# Altium integrated library renesas.IntLib: 1 symbol
Pins are listed as number, name and electrical type; pins without a type are passive.

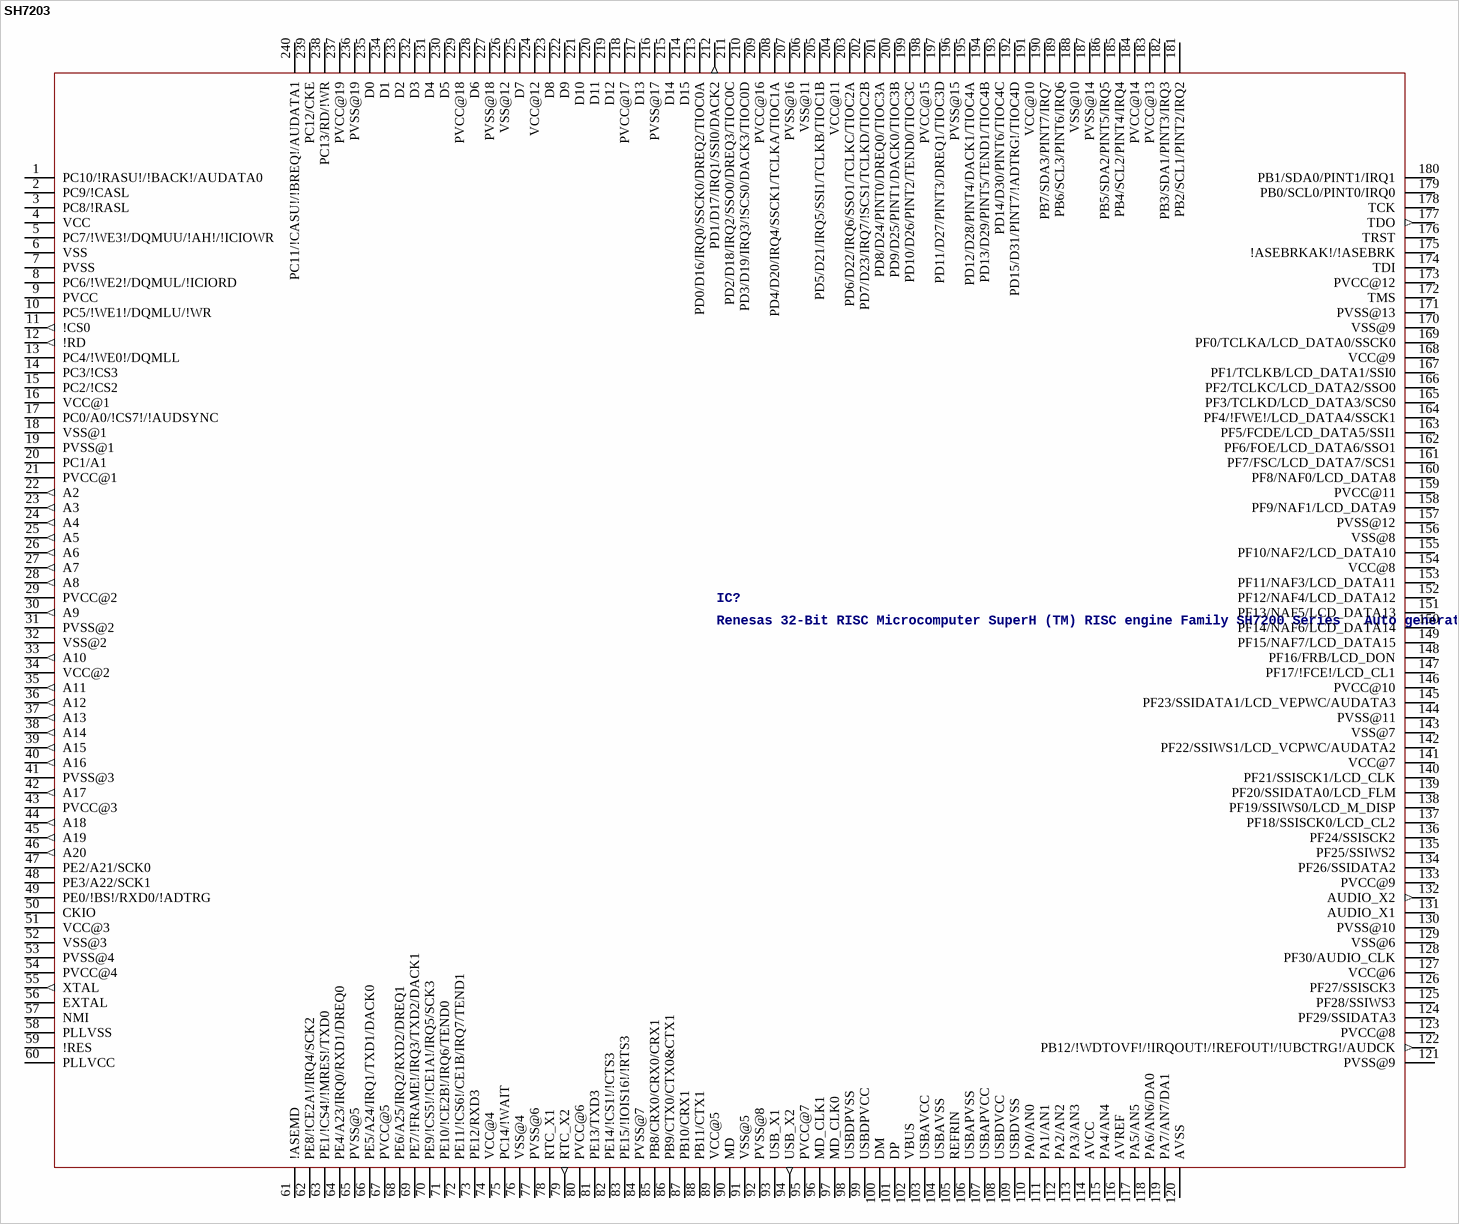
[diagram p0: symbol SH7203]

## SH7203
designator IC?, comment Renesas 32-Bit RISC Microcomputer SuperH (TM) RISC engine Family SH7200 Series   Auto generated by make-symbol-device-package-bsdl.ulp Rev. 27 Source: rej09b0313_sh7203hm.pdf; sh7203_pin_arrangement.pdf
MPN: DS72030W200FPV; OC_FARNELL: 1677756; OC_NEWARK: 40P2895
footprint QFP3232-240CU
pins: 1 PC10/!RASU!/!BACK!/AUDATA0, 2 PC9/!CASL, 3 PC8/!RASL, 4 VCC (power), 5 PC7/!WE3!/DQMUU/!AH!/!ICIOWR, 6 VSS (power), 7 PVSS (power), 8 PC6/!WE2!/DQMUL/!ICIORD, 9 PVCC (power), 10 PC5/!WE1!/DQMLU/!WR, 11 !CS0 (out), 12 !RD (out), 13 PC4/!WE0!/DQMLL, 14 PC3/!CS3, 15 PC2/!CS2, 16 VCC@1 (power), 17 PC0/A0/!CS7!/!AUDSYNC, 18 VSS@1 (power), 19 PVSS@1 (power), 20 PC1/A1, 21 PVCC@1 (power), 22 A2 (out), 23 A3 (out), 24 A4 (out), 25 A5 (out), 26 A6 (out), 27 A7 (out), 28 A8 (out), 29 PVCC@2 (power), 30 A9 (out), 31 PVSS@2 (power), 32 VSS@2 (power), 33 A10 (out), 34 VCC@2 (power), 35 A11 (out), 36 A12 (out), 37 A13 (out), 38 A14 (out), 39 A15 (out), 40 A16 (out), 41 PVSS@3 (power), 42 A17 (out), 43 PVCC@3 (power), 44 A18 (out), 45 A19 (out), 46 A20 (out), 47 PE2/A21/SCK0, 48 PE3/A22/SCK1, 49 PE0/!BS!/RXD0/!ADTRG, 50 CKIO, 51 VCC@3 (power), 52 VSS@3 (power), 53 PVSS@4 (power), 54 PVCC@4 (power), 55 XTAL (out), 56 EXTAL, 57 NMI, 58 PLLVSS (power), 59 !RES, 60 PLLVCC (power), 61 !ASEMD, 62 PE8/!CE2A!/IRQ4/SCK2, 63 PE1/!CS4!/!MRES!/TXD0, 64 PE4/A23/IRQ0/RXD1/DREQ0, 65 PVSS@5 (power), 66 PE5/A24/IRQ1/TXD1/DACK0, 67 PVCC@5 (power), 68 PE6/A25/IRQ2/RXD2/DREQ1, 69 PE7/!FRAME!/IRQ3/TXD2/DACK1, 70 PE9/!CS5!/!CE1A!/IRQ5/SCK3, 71 PE10/!CE2B!/IRQ6/TEND0, 72 PE11/!CS6!/CE1B/IRQ7/TEND1, 73 PE12/RXD3, 74 VCC@4 (power), 75 PC14/!WAIT, 76 VSS@4 (power), 77 PVSS@6 (power), 78 RTC_X1, 79 RTC_X2 (out), 80 PVCC@6 (power), 81 PE13/TXD3, 82 PE14/!CS1!/!CTS3, 83 PE15/!IOIS16!/!RTS3, 84 PVSS@7 (power), 85 PB8/CRX0/CRX0/CRX1, 86 PB9/CTX0/CTX0&CTX1, 87 PB10/CRX1, 88 PB11/CTX1, 89 VCC@5 (power), 90 MD, 91 VSS@5 (power), 92 PVSS@8 (power), 93 USB_X1, 94 USB_X2 (out), 95 PVCC@7 (power), 96 MD_CLK1, 97 MD_CLK0, 98 USBDPVSS (power), 99 USBDPVCC (power), 100 DM, 101 DP, 102 VBUS, 103 USBAVCC (power), 104 USBAVSS (power), 105 REFRIN, 106 USBAPVSS (power), 107 USBAPVCC (power), 108 USBDVCC (power), 109 USBDVSS (power), 110 PA0/AN0, 111 PA1/AN1, 112 PA2/AN2, 113 PA3/AN3, 114 AVCC (power), 115 PA4/AN4, 116 AVREF, 117 PA5/AN5, 118 PA6/AN6/DA0, 119 PA7/AN7/DA1, 120 AVSS (power), 121 PVSS@9 (power), 122 PB12/!WDTOVF!/!IRQOUT!/!REFOUT!/!UBCTRG!/AUDCK (out), 123 PVCC@8 (power), 124 PF29/SSIDATA3, 125 PF28/SSIWS3, 126 PF27/SSISCK3, 127 VCC@6 (power), 128 PF30/AUDIO_CLK, 129 VSS@6 (power), 130 PVSS@10 (power), 131 AUDIO_X1, 132 AUDIO_X2 (out), 133 PVCC@9 (power), 134 PF26/SSIDATA2, 135 PF25/SSIWS2, 136 PF24/SSISCK2, 137 PF18/SSISCK0/LCD_CL2, 138 PF19/SSIWS0/LCD_M_DISP, 139 PF20/SSIDATA0/LCD_FLM, 140 PF21/SSISCK1/LCD_CLK, 141 VCC@7 (power), 142 PF22/SSIWS1/LCD_VCPWC/AUDATA2, 143 VSS@7 (power), 144 PVSS@11 (power), 145 PF23/SSIDATA1/LCD_VEPWC/AUDATA3, 146 PVCC@10 (power), 147 PF17/!FCE!/LCD_CL1, 148 PF16/FRB/LCD_DON, 149 PF15/NAF7/LCD_DATA15, 150 PF14/NAF6/LCD_DATA14, 151 PF13/NAF5/LCD_DATA13, 152 PF12/NAF4/LCD_DATA12, 153 PF11/NAF3/LCD_DATA11, 154 VCC@8 (power), 155 PF10/NAF2/LCD_DATA10, 156 VSS@8 (power), 157 PVSS@12 (power), 158 PF9/NAF1/LCD_DATA9, 159 PVCC@11 (power), 160 PF8/NAF0/LCD_DATA8, 161 PF7/FSC/LCD_DATA7/SCS1, 162 PF6/FOE/LCD_DATA6/SSO1, 163 PF5/FCDE/LCD_DATA5/SSI1, 164 PF4/!FWE!/LCD_DATA4/SSCK1, 165 PF3/TCLKD/LCD_DATA3/SCS0, 166 PF2/TCLKC/LCD_DATA2/SSO0, 167 PF1/TCLKB/LCD_DATA1/SSI0, 168 VCC@9 (power), 169 PF0/TCLKA/LCD_DATA0/SSCK0, 170 VSS@9 (power), 171 PVSS@13 (power), 172 TMS, 173 PVCC@12 (power), 174 TDI, 175 !ASEBRKAK!/!ASEBRK, 176 TRST, 177 TDO (out), 178 TCK, 179 PB0/SCL0/PINT0/IRQ0, 180 PB1/SDA0/PINT1/IRQ1, 181 PB2/SCL1/PINT2/IRQ2, 182 PB3/SDA1/PINT3/IRQ3, 183 PVCC@13 (power), 184 PVCC@14 (power), 185 PB4/SCL2/PINT4/IRQ4, 186 PB5/SDA2/PINT5/IRQ5, 187 PVSS@14 (power), 188 VSS@10 (power), 189 PB6/SCL3/PINT6/IRQ6, 190 PB7/SDA3/PINT7/IRQ7, 191 VCC@10 (power), 192 PD15/D31/PINT7/!ADTRG!/TIOC4D, 193 PD14/D30/PINT6/TIOC4C, 194 PD13/D29/PINT5/TEND1/TIOC4B, 195 PD12/D28/PINT4/DACK1/TIOC4A, 196 PVSS@15 (power), 197 PD11/D27/PINT3/DREQ1/TIOC3D, 198 PVCC@15 (power), 199 PD10/D26/PINT2/TEND0/TIOC3C, 200 PD9/D25/PINT1/DACK0/TIOC3B, 201 PD8/D24/PINT0/DREQ0/TIOC3A, 202 PD7/D23/IRQ7/!SCS1/TCLKD/TIOC2B, 203 PD6/D22/IRQ6/SSO1/TCLKC/TIOC2A, 204 VCC@11 (power), 205 PD5/D21/IRQ5/SSI1/TCLKB/TIOC1B, 206 VSS@11 (power), 207 PVSS@16 (power), 208 PD4/D20/IRQ4/SSCK1/TCLKA/TIOC1A, 209 PVCC@16 (power), 210 PD3/D19/IRQ3/!SCS0/DACK3/TIOC0D, 211 PD2/D18/IRQ2/SSO0/DREQ3/TIOC0C, 212 PD1/D17/IRQ1/SSI0/DACK2 (out), 213 PD0/D16/IRQ0/SSCK0/DREQ2/TIOC0A, 214 D15, 215 D14, 216 PVSS@17 (power), 217 D13, 218 PVCC@17 (power), 219 D12, 220 D11, 221 D10, 222 D9, 223 D8, 224 VCC@12 (power), 225 D7, 226 VSS@12 (power), 227 PVSS@18 (power), 228 D6, 229 PVCC@18 (power), 230 D5, 231 D4, 232 D3, 233 D2, 234 D1, 235 D0, 236 PVSS@19 (power), 237 PVCC@19 (power), 238 PC13/RD/!WR, 239 PC12/CKE, 240 PC11/!CASU!/!BREQ!/AUDATA1